# Altium footprint library ACS711.PcbLib: 5 footprints
Each footprint in its own frame and in the unit in brackets; x right, y up, seen from the top. Pads: shape width x height; smd on the part's side, far side on the other; paste and mask are expansions set on the pad; w line width, h text height; cw(c..) or ccw(c..) is an arc to the next point about the centre after c.
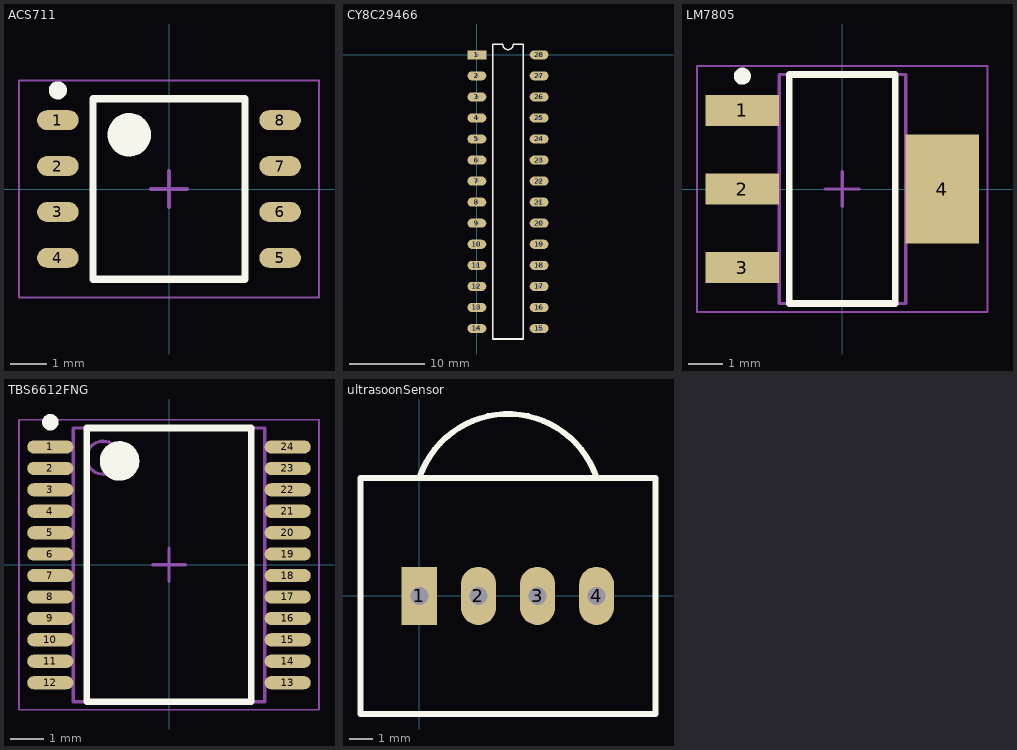
[diagram p0: the footprints below, top view; thin cyan lines are the x and y axes]

## ACS711 [mm] "SOIC, 8-Leads, Body 4.90x4.90mm, Pitch 1.27mm, IPC Low Density"
height 1.75
pads (8):
  oval 1.15x0.55 smd: 1(-3.075,1.905) 2(-3.075,0.635) 3(-3.075,-0.635) 4(-3.075,-1.905) 5(3.075,-1.905) 6(3.075,-0.635) 7(3.075,0.635) 8(3.075,1.905)
Top Overlay:
  circle w0.25: c-3.075,2.73 r0.125
  circle w0.6: c-1.1,1.5 r0.3
  lines w0.2: -2.1,-2.5 -2.1,2.5 2.1,2.5 2.1,-2.5 -2.1,-2.5
Mechanical 15:
  lines w0.05: -4.15,-3 -4.15,3 4.15,3 4.15,-3 -4.15,-3
  lines w0.1: -0.5,0 0.5,0 ; 0,-0.5 0,0.5

## CY8C29466 [mm]
pads (28):
  rect 2.5x1.2 hole 0.5: 1(0,0)
  oval 2.5x1.2 hole 0.5: 2(0,-2.79) 3(0,-5.58) 4(0,-8.37) 5(0,-11.16) 6(0,-13.95) 7(0,-16.74) 8(0,-19.53) 9(0,-22.32) 10(0,-25.11) 11(0,-27.9) 12(0,-30.69) 13(0,-33.48) 14(0,-36.27) 15(8.25,-36.27) 16(8.25,-33.48) 17(8.25,-30.69) 18(8.25,-27.9) 19(8.25,-25.11) 20(8.25,-22.32) 21(8.25,-19.53) 22(8.25,-16.74) 23(8.25,-13.95) 24(8.25,-11.16) 25(8.25,-8.37) 26(8.25,-5.58) 27(8.25,-2.79) 28(8.25,0)
Top Overlay:
  lines w0.2: 2.085,-37.665 6.165,-37.665 6.165,1.395 4.822,1.395 cw(c4.125,1.395) 3.427,1.395 2.085,1.395 2.085,-37.665

## LM7805 [mm] "SOT223, 4-Leads, Body 6.50x7.00mm (avg), Pitch 2.30mm, IPC Medium Density"
height 1.8
pads (4):
  rect 2.15x0.9 smd: 1(-2.925,2.3) 2(-2.925,0) 3(-2.925,-2.3)
  rect 2.15x3.2 smd: 4(2.925,0)
Top Overlay:
  circle w0.25: c-2.925,3.3 r0.125
  lines w0.2: -1.55,-3.35 1.55,-3.35 1.55,3.35 -1.55,3.35 -1.55,-3.35
Mechanical 13:
  lines w0.1: -1.85,-3.35 1.85,-3.35 1.85,3.35 -1.85,3.35 -1.85,-3.35
Mechanical 15:
  lines w0.05: -4.25,-3.6 4.25,-3.6 4.25,3.6 -4.25,3.6 -4.25,-3.6
  lines w0.1: -0.5,0 0.5,0 ; 0,-0.5 0,0.5
3D body: height 1.8, standoff 0.1, extent -1.85,-3.35 1.85,3.35

## TBS6612FNG [mm] "TSOP, 24-Leads, Body 8.30x5.60mm, Pitch 0.65mm, IPC Medium Density"
height 1.6
pads (24):
  oval 1.4x0.4 smd: 1(-3.6,3.575) 2(-3.6,2.925) 3(-3.6,2.275) 4(-3.6,1.625) 5(-3.6,0.975) 6(-3.6,0.325) 7(-3.6,-0.325) 8(-3.6,-0.975) 9(-3.6,-1.625) 10(-3.6,-2.275) 11(-3.6,-2.925) 12(-3.6,-3.575) 13(3.6,-3.575) 14(3.6,-2.925) 15(3.6,-2.275) 16(3.6,-1.625) 17(3.6,-0.975) 18(3.6,-0.325) 19(3.6,0.325) 20(3.6,0.975) 21(3.6,1.625) 22(3.6,2.275) 23(3.6,2.925) 24(3.6,3.575)
Top Overlay:
  circle w0.25: c-3.6,4.325 r0.125
  circle w0.6: c-1.5,3.15 r0.3
  lines w0.2: -2.5,-4.15 -2.5,4.15 2.5,4.15 2.5,-4.15 -2.5,-4.15
Mechanical 13:
  circle w0.1: c-2,3.25 r0.5
  lines w0.1: -2.9,-4.15 -2.9,4.15 2.9,4.15 2.9,-4.15 -2.9,-4.15
Mechanical 15:
  lines w0.05: -4.55,-4.4 -4.55,4.4 4.55,4.4 4.55,-4.4 -4.55,-4.4
  lines w0.1: -0.5,0 0.5,0 ; 0,-0.5 0,0.5
3D body: height 1.6, standoff 0.1, extent -2.9,-4.15 2.9,4.15

## ultrasoonSensor [mil]
pads (4):
  rect 60x98.43 hole 30: 1(0,0)
  oval 60x98.43 hole 30: 2(100,0) 3(200,0)
  oval 59.06x98.43 hole 30: 4(300,0)
Top Overlay:
  lines w10: 0,200 cw(c150,150) 300,200 ; -100,-200 -100,0 -100,200 400,200 400,-200 -100,-200